# Altium footprint library Passives.PcbLib: 57 footprints (part 1 of 4)
Each footprint in its own frame and in the unit in brackets; x right, y up, seen from the top. Pads: shape width x height; smd on the part's side, far side on the other; paste and mask are expansions set on the pad; w line width, h text height; cw(c..) or ccw(c..) is an arc to the next point about the centre after c.
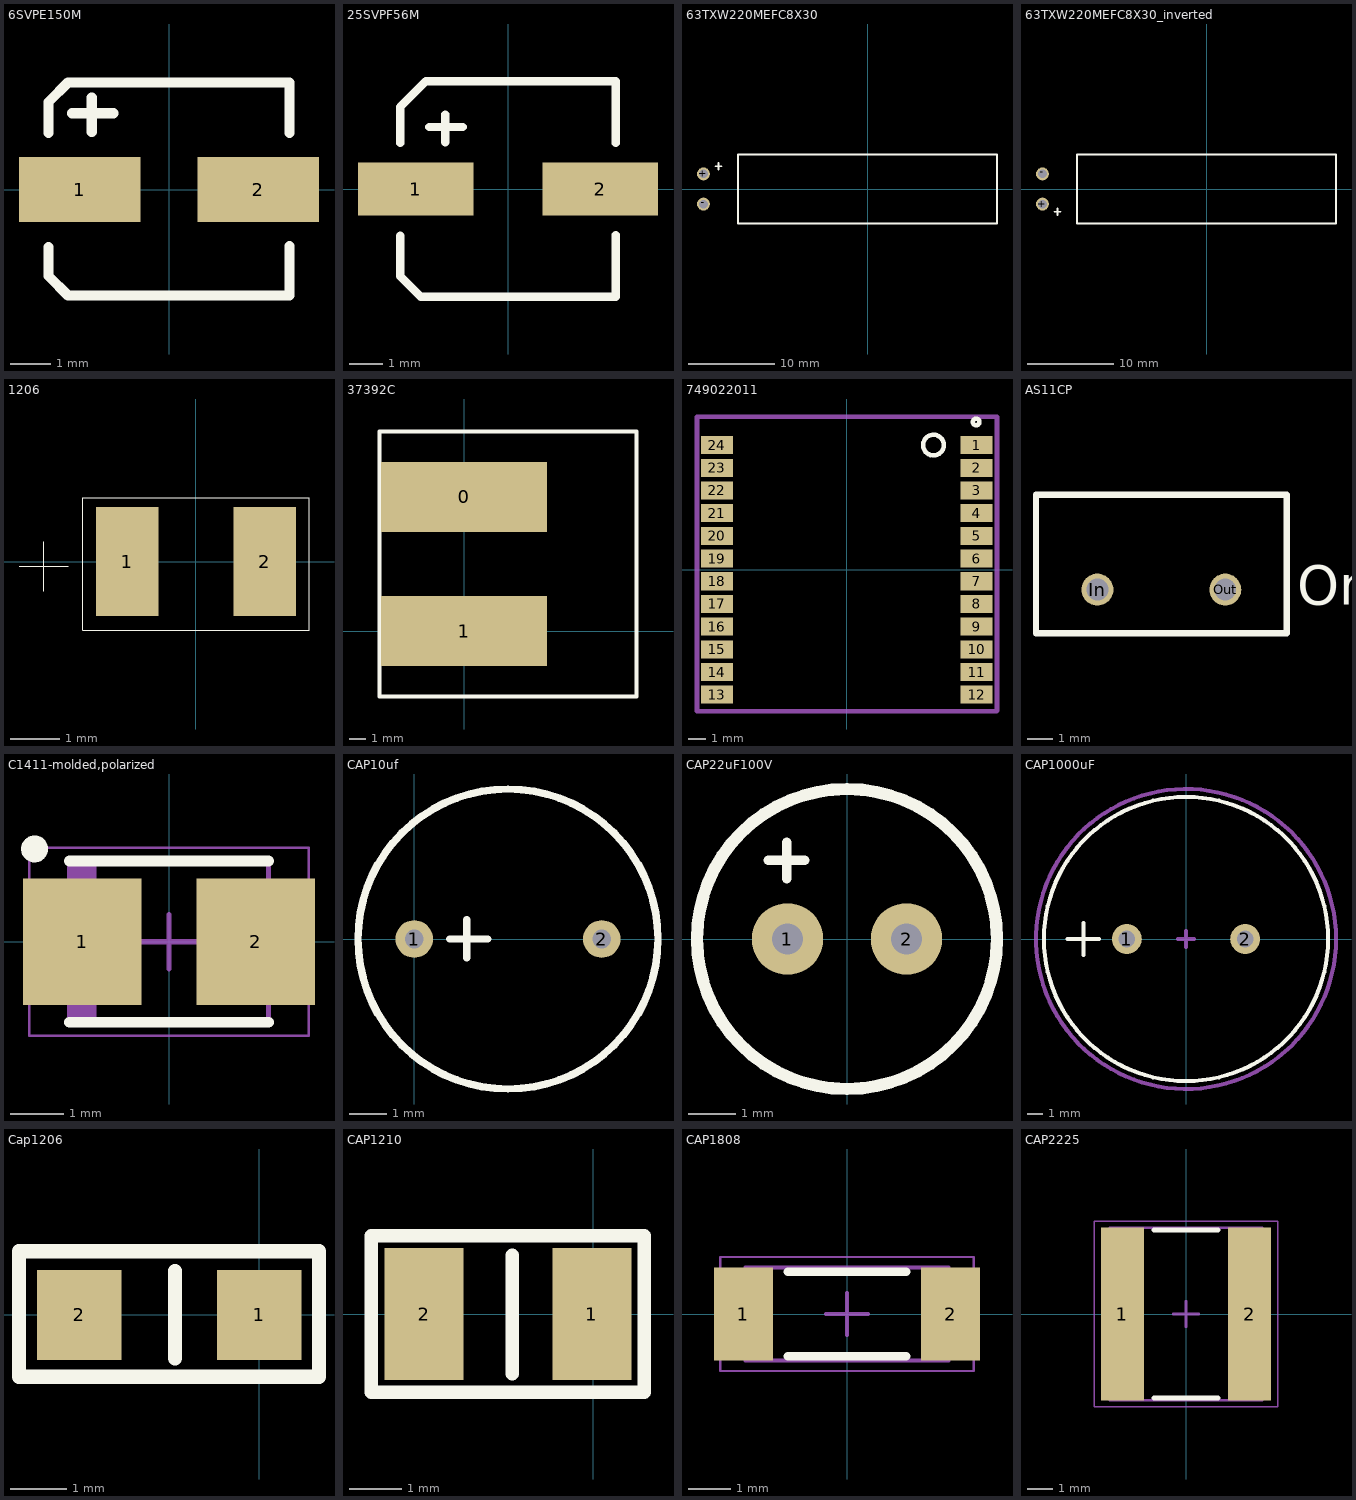
[diagram p0: the footprints below, top view; thin cyan lines are the x and y axes]

## 6SVPE150M [mm] "CAP POLYMER 150UF 20% 6.3V SMD"
height 6
pads (2):
  rect 3x1.6 smd: 1(-2.2,0) 2(2.2,0)
Top Overlay:
  lines w0.254: -2.972,-1.422 -2.972,-2.134 -2.489,-2.616 2.972,-2.616 2.972,-1.397 ; -2.972,1.397 -2.972,2.159 -2.489,2.642 2.972,2.642 2.972,1.397 ; -2.388,1.88 -1.372,1.88 ; -1.905,1.422 -1.905,2.261
3D body "PCAP_SVP_B6-M.stp": height 6.05, standoff 0, extent -3.099,-2.756 3.099,2.756

## 25SVPF56M [mm] "CAP POLYMER 56UF 20% 25V SMD"
height 6
pads (2):
  rect 3.5x1.6 smd: 1(-2.8,0) 2(2.8,0)
Top Overlay:
  lines w0.254: -3.273,-1.422 -3.273,-2.143 -3.273,-2.642 -2.642,-3.273 2.819,-3.273 ; -3.273,1.397 -3.273,2.159 ; -3.273,2.134 -3.273,2.489 -2.489,3.273 2.972,3.273 3.273,3.273 3.273,2.642 3.273,1.397 ; -2.388,1.88 -1.372,1.88 ; -1.905,1.422 -1.905,2.261 ; 2.769,-3.273 3.273,-3.273 3.273,-2.616 3.273,-1.397
3D body "PCAP_SVP_B6-M.stp": height 6.05, standoff 0, extent -3.099,-2.756 3.099,2.756

## 63TXW220MEFC8X30 [mm]
height 8
pads (2):
  round 1.5 hole 1: +(-19,1.75) -(-19,-1.75)
Top Overlay:
  lines w0.2: -17.651,2.651 -16.889,2.651 ; -17.27,2.27 -17.27,3.032
  lines w0.254: -15,-4 -15,4 15,4 15,-4 -15,-4
3D body: height 4.3, standoff 0, extent -20,-3 -15,3
3D body: height 8, standoff 0, extent -15,-4 15,4

## 63TXW220MEFC8X30_inverted [mm]
height 8
pads (2):
  round 1.5 hole 1: +(-19,-1.75) -(-19,1.75)
Top Overlay:
  lines w0.2: -17.651,-2.651 -16.889,-2.651 ; -17.27,-3.032 -17.27,-2.27
  lines w0.254: -15,-4 -15,4 15,4 15,-4 -15,-4
3D body: height 4.3, standoff 0, extent -20,-3 -15,3
3D body: height 8, standoff 0, extent -15,-4 15,4

## 1206 [mil]
pads (2):
  rect 50x87 smd: 1(-55,0) 2(55,0)
Top Overlay:
  lines w1: -141.73,-3.94 -102.36,-3.94 ; -122.05,-23.62 -122.05,15.75 ; -90.55,-1.57 -90.55,51.18 90.55,51.18 90.55,-55.12 -90.55,-55.12 -90.55,5.51
3D body: height 75, standoff 4, extent -74.8,-43.31 74.8,43.31

## 37392C [mm] "INDUCTOR 3.90UH 10.0A SMD"
height 6.8
pads (2):
  rect 10.4x4.4 smd: 0(0,8.4) 1(0,0)
Top Overlay:
  lines w0.254: -5.3,-2.3 -5.3,-4.1 ; -5.3,10.7 -5.3,12.5 ; 5.3,12.5 -5.3,12.5 ; -5.3,-4.1 5.3,-4.1 10.8,-4.1 10.8,12.5 0,12.5 -5.3,12.5 ; -5.3,-4.1 -5.3,12.5
3D body: height 6.8, standoff 0, extent -5.5,-4.3 11,12.6

## 749022011 [mm] "TRANSFORMER LAN 10/100/1000 POE"
height 6.35
pads (24):
  rect 1.78x1.01 smd: 1(7.265,6.985) 2(7.265,5.715) 3(7.265,4.445) 4(7.265,3.175) 5(7.265,1.905) 6(7.265,0.635) 7(7.265,-0.635) 8(7.265,-1.905) 9(7.265,-3.175) 10(7.265,-4.445) 11(7.265,-5.715) 12(7.265,-6.985) 13(-7.265,-6.985) 14(-7.265,-5.715) 15(-7.265,-4.445) 16(-7.265,-3.175) 17(-7.265,-1.905) 18(-7.265,-0.635) 19(-7.265,0.635) 20(-7.265,1.905) 21(-7.265,3.175) 22(-7.265,4.445) 23(-7.265,5.715) 24(-7.265,6.985)
Top Overlay:
  circle w0.254: c4.851,6.985 r0.579
  circle w0.254: c7.239,8.28 r0.185
Mechanical 15:
  lines w0.254: -8.382,-7.899 8.382,-7.899 8.407,-7.874 8.407,8.56 -8.382,8.56 -8.382,-7.849
3D body: height 6.35, standoff 0, extent -7.29,-7.925 7.239,8.179

## AS11CP [mm] "SPST Slide Switch"
pads (2):
  round 1.25 hole 0.85: In(-1215.5,-1242.2) Out(-1210.5,-1242.2)
Top Overlay:
  lines w0.254: -1217.9,-1243.9 -1217.9,-1238.5 -1208.1,-1238.5 -1208.1,-1243.9 -1217.9,-1243.9
  text "On" at -1207.7,-1242.8 h1.52
3D body "AS11CP_2_03.stp": height 12.9, standoff -3.1, extent -1218.002,-1243.8 -1208.198,-1238.415

## C1411-molded,polarized [mm] "Molded Capacitor, 2-Leads, Body 3.50x2.80mm, IPC Medium Density"
height 2
pads (2):
  rect 2.21x2.35 smd: 1(-1.615,0) 2(1.615,0)
Top Overlay:
  circle w0.25: c-2.5,1.725 r0.125
  lines w0.2: -1.85,-1.5 1.85,-1.5 ; -1.85,1.5 1.85,1.5
Mechanical 13:
  rectangle: -1.85,-1.5 -1.352,1.5
  lines w0.1: -1.85,-1.5 -1.85,1.5 1.85,1.5 1.85,-1.5 -1.85,-1.5
Mechanical 15:
  lines w0.05: -2.6,-1.75 -2.6,1.75 2.6,1.75 2.6,-1.75 -2.6,-1.75
  lines w0.1: -0.5,0 0.5,0 ; 0,-0.5 0,0.5
3D body: height 2, standoff 0, extent -1.85,-1.5 1.85,1.5

## CAP10uf [mm]
pads (2):
  round 1 hole 0.5: 1(0,0) 2(5,0)
Top Overlay:
  circle w0.2: c2.5,0 r4
  lines w0.2: 0.942,0 1.958,0 ; 1.4,-0.5 1.4,0.516

## CAP22uF100V [mm] "CAP ALUM 22UF 100V 20% RADIAL"
height 11.2
pads (2):
  round 1.5 hole 0.65: 1(-1.25,0) 2(1.25,0)
Top Overlay:
  circle w0.254: c0,0 r3.15
  lines w0.2: -1.651,1.651 -0.889,1.651 ; -1.27,1.27 -1.27,2.032
3D body: height 11.2, standoff 0, extent -3.125,-3.144 3.15,3.144

## CAP1000uF [mm] "CAP ALUM 1000UF 50V 20% RADIAL"
height 20
pads (2):
  round 1.9 hole 1.05: 1(-3.75,0) 2(3.75,0)
Top Overlay:
  circle w0.254: c0,0 r9
  lines w0.25: -7.5,0 -5.5,0 ; -6.5,-1 -6.5,1
Mechanical 15:
  circle w0.254: c0,0 r9.5
  lines w0.25: -0.5,0 0.5,0 ; 0,-0.5 0,0.5
3D body: height 20, standoff 0, extent -8.929,-8.982 9,8.982

## Cap1206 [mm]
height 1.6
pads (2):
  rect 1.5x1.6 smd: 1(0,0) 2(-3.2,0)
Top Overlay:
  lines w0.254: -1.5,-0.77 -1.5,0.78 ; -4.27,-1.1 -4.27,1.13 1.06,1.13 1.06,-1.1 -4.27,-1.1
3D body: height 1.6, standoff 0, extent -3.2,-0.9 0.02,0.9

## CAP1210 [mm]
height 2.5
pads (2):
  rect 1.5x2.5 smd: 1(-0.02,0) 2(-3.2,0)
Top Overlay:
  lines w0.254: -1.53,-1.13 -1.53,1.11 ; -4.2,-1.48 -4.2,1.48 0.97,1.48 0.97,-1.48 -4.2,-1.48
3D body: height 2.5, standoff 0, extent -3.22,-1.25 0,1.26

## CAP1808 [mm] "Chip Capacitor, 2-Leads, Body 4.50x2.00mm, IPC Medium Density"
height 1.8
pads (2):
  rect 1.4x2.2 smd: 1(-2.45,0) 2(2.45,0)
Top Overlay:
  lines w0.2: -1.4,-1 1.4,-1 ; -1.4,1 1.4,1
Mechanical 13:
  lines w0.1: -2.4,-1.1 -2.4,1.1 2.4,1.1 2.4,-1.1 -2.4,-1.1
Mechanical 15:
  lines w0.05: -3,-1.35 -3,1.35 3,1.35 3,-1.35 -3,-1.35
  lines w0.1: -0.5,0 0.5,0 ; 0,-0.5 0,0.5
3D body: height 1.8, standoff 0, extent -2.1,-1.1 2.1,1.1
3D body: height 1.8, standoff 0, extent -2.4,-1.1 -2.1,1.1
3D body: height 1.8, standoff 0, extent 2.1,-1.1 2.4,1.1

## CAP2225 [mm] "Chip Capacitor, 2-Leads, Body 5.60x6.40mm, IPC Medium Density"
height 1.8
pads (2):
  rect 1.7x6.8 smd: 1(-2.5,0) 2(2.5,0)
Top Overlay:
  lines w0.2: -1.25,-3.3 1.25,-3.3 ; -1.25,3.3 1.25,3.3
Mechanical 13:
  lines w0.1: -3,-3.4 -3,3.4 3,3.4 3,-3.4 -3,-3.4
Mechanical 15:
  lines w0.05: -3.6,-3.65 -3.6,3.65 3.6,3.65 3.6,-3.65 -3.6,-3.65
  lines w0.1: -0.5,0 0.5,0 ; 0,-0.5 0,0.5
3D body: height 1.8, standoff 0, extent -2.4,-3.4 2.4,3.4
3D body: height 1.8, standoff 0, extent -3,-3.4 -2.4,3.4
3D body: height 1.8, standoff 0, extent 2.4,-3.4 3,3.4